# EAGLE library part TLC59116IPWR (library leds)
16-CHANNEL Fm+ I2C-BUS CONSTANT-CURRENT LED SINK DRIVER
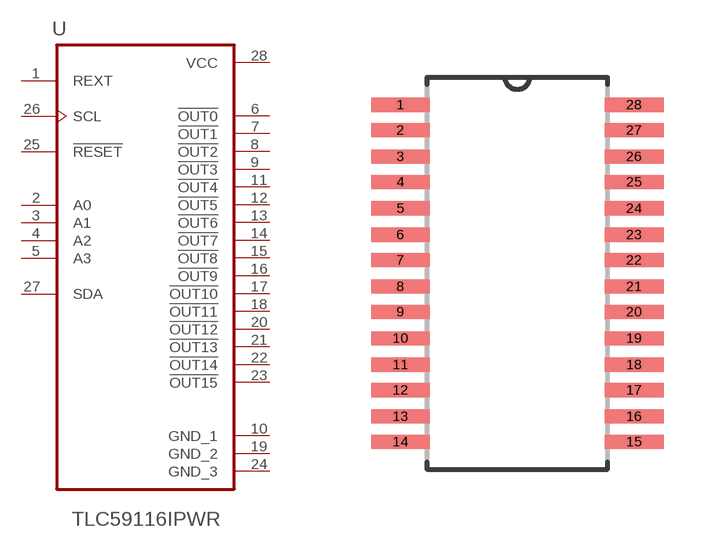
[diagram p1: symbol with the pads of SOP65P640X120-28N; footprint SOP65P640X120-28N]

Designator prefix U

## TLC59116IPWR (DESCRIPTION: 16-Bit Fast-Mode Plus _FM+_ I2C Bus Constant-Current LED Sink Driver 28-TSSOP -40 to 85; DIGI-KEY_PART_NUMBER: 296-23354-1-ND; DIGI-KEY_PURCHASE_URL: https://www.digikey.com/product-detail/en/texas-instruments/TLC59116IPWR/296-23354-1-ND/1835679?utm_source=snapeda&utm_medium=aggregator&utm_campaign=symbol; MF: Texas Instruments; MP: TLC59116IPWR; PACKAGE: TSSOP-28 Texas Instruments)  [SOP65P640X120-28N]
1  REXT  in
2  A0  in
3  A1  in
4  A2  in
5  A3  in
6  !OUT0  out
7  !OUT1  out
8  !OUT2  out
9  !OUT3  out
10  GND_1  pwr
11  !OUT4  out
12  !OUT5  out
13  !OUT6  out
14  !OUT7  out
15  !OUT8  out
16  !OUT9  out
17  !OUT10  out
18  !OUT11  out
19  GND_2  pwr
20  !OUT12  out
21  !OUT13  out
22  !OUT14  out
23  !OUT15  out
24  GND_3  pwr
25  !RESET  in
26  SCL  in
27  SDA
28  VCC  pwr

## Footprint SOP65P640X120-28N (pad centres in mm)
smd 1.473 x 0.356: 1 -2.921,4.216; 2 -2.921,3.581; 3 -2.921,2.921; 4 -2.921,2.286; 5 -2.921,1.626; 6 -2.921,0.965; 7 -2.921,0.33; 8 -2.921,-0.33; 9 -2.921,-0.965; 10 -2.921,-1.626; 11 -2.921,-2.286; 12 -2.921,-2.921; 13 -2.921,-3.581; 14 -2.921,-4.216; 15 2.921,-4.216; 16 2.921,-3.581; 17 2.921,-2.921; 18 2.921,-2.286; 19 2.921,-1.626; 20 2.921,-0.965; 21 2.921,-0.33; 22 2.921,0.33; 23 2.921,0.965; 24 2.921,1.626; 25 2.921,2.286; 26 2.921,2.921; 27 2.921,3.581; 28 2.921,4.216